# EAGLE library part LMX2531LQ-A (library national-semiconductor)
High Performance Frequency Synthesizer System with Integrated VCO Source: http://cache.national.com/ds/LM/LMX2531LQ1515E.pdf?
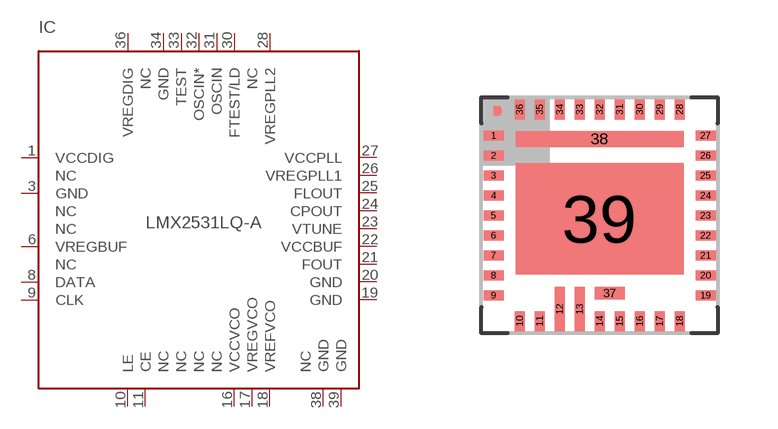
[diagram p1: symbol with the pads of LQA036A; footprint LQA036A]

Designator prefix IC

## LMX2531LQ-A (MPN: LMX2531LQ1515E; OC_FARNELL: 1609181; OC_NEWARK: 04R9133)  [LQA036A]
1  VCCDIG  pwr
2  NC  nc
3  GND  pwr
4  NC  nc
5  NC  nc
6  VREGBUF  in
7  NC  nc
8  DATA  in
9  CLK  in
10  LE  in
11  CE  in
12  NC  nc
13  NC  nc
14  NC  nc
15  NC  nc
16  VCCVCO  in
17  VREGVCO  pas
18  VREFVCO  pas
19  GND  pwr
20  GND  pwr
21  FOUT  out
22  VCCBUF  in
23  VTUNE  in
24  CPOUT  out
25  FLOUT  out
26  VREGPLL1  pas
27  VCCPLL  in
28  VREGPLL2  pas
29  NC  nc
30  FTEST/LD  out
31  OSCIN  in
32  OSCIN*  in
33  TEST  in
34  GND  pwr
35  NC  nc
36  VREGDIG  in
37  NC  nc
38  GND  pwr
39  GND  pwr

## Footprint LQA036A (pad centres in mm)
NS Package Number LQA036A Source: http://cache.national.com/ds/LM/LMX2531LQ1515E.pdf?
smd 0.5 x 0.25: 1 -2.65,2; 2 -2.65,1.5; 3 -2.65,1; 4 -2.65,0.5; 5 -2.65,0; 6 -2.65,-0.5; 7 -2.65,-1; 8 -2.65,-1.5; 9 -2.65,-2; 19 2.65,-2; 20 2.65,-1.5; 21 2.65,-1; 22 2.65,-0.5; 23 2.65,0; 24 2.65,0.5; 25 2.65,1; 26 2.65,1.5; 27 2.65,2
smd 0.25 x 0.5: 10 -2,-2.65; 11 -1.5,-2.65; 14 0,-2.65; 15 0.5,-2.65; 16 1,-2.65; 17 1.5,-2.65; 18 2,-2.65; 28 2,2.65; 29 1.5,2.65; 30 1,2.65; 31 0.5,2.65; 32 0,2.65; 33 -0.5,2.65; 34 -1,2.65; 35 -1.5,2.65; 36 -2,2.65
smd 0.25 x 1.11: 12 -1,-2.35; 13 -0.5,-2.35
smd 0.75 x 0.31: 37 0.25,-1.95
smd 4.2 x 0.4: 38 0,1.91
smd 4.2 x 2.79: 39 0,-0.09